# Altium schematic symbol library EA3036CQBR.SchLib: 1 symbol
Pins are listed as number, name and electrical type; pins without a type are passive.

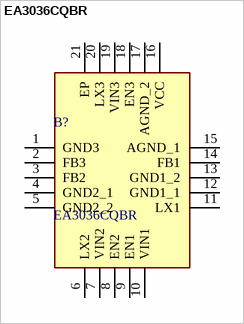
[diagram p0: symbol EA3036CQBR]

## EA3036CQBR
designator B?
3CH Power Management IC; Manufacturer_Name: Ever Analog; Geometry.Height: 0.8mm; Manufacturer_Part_Number: EA3036CQBR; Mouser Part Number: *; Mouser Price/Stock: *; Arrow Part Number: *; Arrow Price/Stock: *; Datasheet Link: http://club.szlcsc.com/article/downFile_D72C44885C60F9F1.html
footprint QFN40P300X300X80-21N
pins: 1 GND3, 2 FB3, 3 FB2, 4 GND2_1, 5 GND2_2, 6 LX2, 7 VIN2, 8 EN2, 9 EN1, 10 VIN1, 11 LX1, 12 GND1_1, 13 GND1_2, 14 FB1, 15 AGND_1, 16 VCC, 17 AGND_2, 18 EN3, 19 VIN3, 20 LX3, 21 EP